# Altium footprint library screw.PcbLib: 6 footprints
Each footprint in its own frame and in the unit in brackets; x right, y up, seen from the top. Pads: shape width x height; smd on the part's side, far side on the other; paste and mask are expansions set on the pad; w line width, h text height; cw(c..) or ccw(c..) is an arc to the next point about the centre after c.
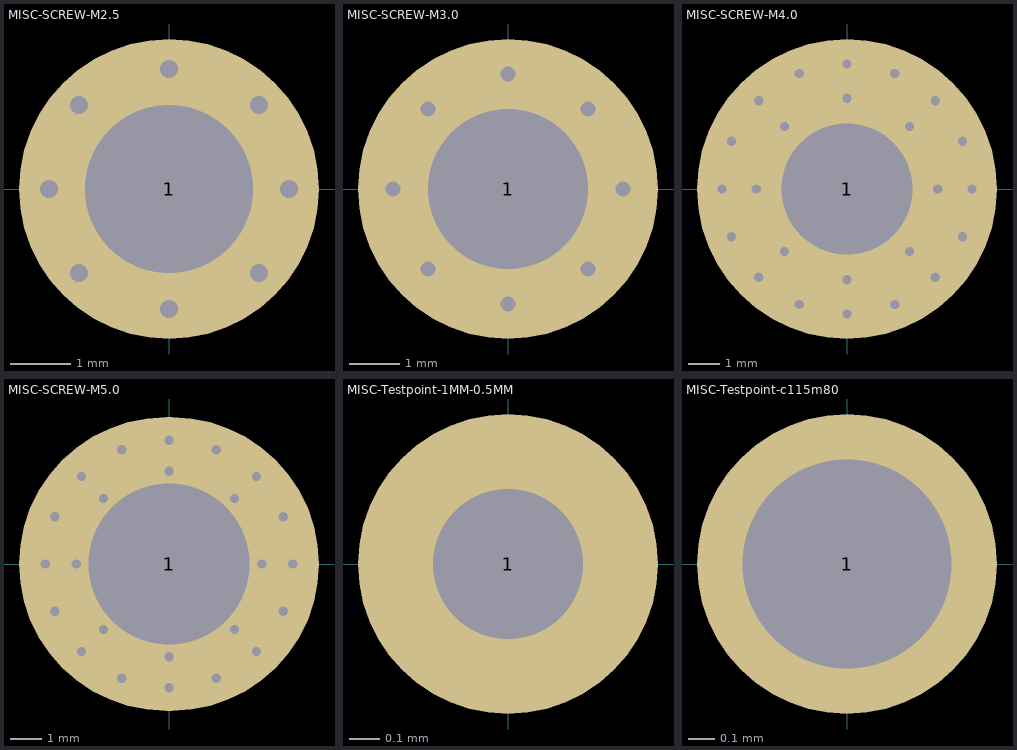
[diagram p0: the footprints below, top view; thin cyan lines are the x and y axes]

## MISC-SCREW-M2.5 [mm] "Mounting hol for M2.5 screw"
pads (1):
  round 5 hole 2.8 mask+0: 1(0,0)
via 1.5,1.4 diameter 0.7 hole 0.3
via -1.5,-1.4 diameter 0.7 hole 0.3
via 0,-2 diameter 0.7 hole 0.3
via -2,0 diameter 0.7 hole 0.3
via 0,2 diameter 0.7 hole 0.3
via -1.5,1.4 diameter 0.7 hole 0.3
via 1.5,-1.4 diameter 0.7 hole 0.3
via 2,0 diameter 0.7 hole 0.3
3D body "CON-2,5-SCREW.stp": height 2.5, standoff -4, extent -2.259,-2.183 2.241,2.292

## MISC-SCREW-M3.0 [mm] "Mounting hol for M3 screw"
pads (1):
  round 6 hole 3.2 paste+0 mask+0: 1(0,0)
via 2.3,0 diameter 0.7 hole 0.3
via 0,2.3 diameter 0.7 hole 0.3
via 0,-2.3 diameter 0.7 hole 0.3
via -2.3,0 diameter 0.7 hole 0.3
via 1.6,1.6 diameter 0.7 hole 0.3
via -1.6,1.6 diameter 0.7 hole 0.3
via 1.6,-1.6 diameter 0.7 hole 0.3
via -1.6,-1.6 diameter 0.7 hole 0.3
3D body "CON-M3,0-SCREW.stp": height 3, standoff -4, extent -2.738,-2.747 2.75,2.747

## MISC-SCREW-M4.0 [mm] "Mounting hol for M4 screw"
pads (1):
  round 9.6 hole 4.2 mask+0: 1(0,0)
via -2,-2 diameter 0.7 hole 0.3
via 2,-2 diameter 0.7 hole 0.3
via -2,2 diameter 0.7 hole 0.3
via 2,2 diameter 0.7 hole 0.3
via -2.9,0 diameter 0.7 hole 0.3
via 0,-2.9 diameter 0.7 hole 0.3
via 2.9,0 diameter 0.7 hole 0.3
via 0,2.9 diameter 0.7 hole 0.3
via 1.531,3.696 diameter 0.7 hole 0.3
via 3.696,1.531 diameter 0.7 hole 0.3
via 3.696,-1.531 diameter 0.7 hole 0.3
via -1.531,3.696 diameter 0.7 hole 0.3
via -3.696,1.531 diameter 0.7 hole 0.3
via -3.696,-1.531 diameter 0.7 hole 0.3
via -1.531,-3.696 diameter 0.7 hole 0.3
via 1.531,-3.696 diameter 0.7 hole 0.3
via -2.828,2.828 diameter 0.7 hole 0.3
via 0,4 diameter 0.7 hole 0.3
via 2.828,2.828 diameter 0.7 hole 0.3
via 4,0 diameter 0.7 hole 0.3
via 2.828,-2.828 diameter 0.7 hole 0.3
via 0,-4 diameter 0.7 hole 0.3
via -2.828,-2.828 diameter 0.7 hole 0.3
via -4,0 diameter 0.7 hole 0.3
3D body "M4 Schraube+Unterlegscheibe.stp": height 5, standoff -3, extent -4.5,-4.497 4.496,4.497

## MISC-SCREW-M5.0 [mm] "Mounting hol for M5 screw"
pads (1):
  oval 9.7x9.5 hole 5.2 mask+0: 1(0,0)
via -4,0 diameter 0.7 hole 0.3
via -2.828,-2.828 diameter 0.7 hole 0.3
via 0,-4 diameter 0.7 hole 0.3
via 2.828,-2.828 diameter 0.7 hole 0.3
via 4,0 diameter 0.7 hole 0.3
via 2.828,2.828 diameter 0.7 hole 0.3
via 0,4 diameter 0.7 hole 0.3
via -2.828,2.828 diameter 0.7 hole 0.3
via 1.531,-3.696 diameter 0.7 hole 0.3
via -1.531,-3.696 diameter 0.7 hole 0.3
via -3.696,-1.531 diameter 0.7 hole 0.3
via -3.696,1.531 diameter 0.7 hole 0.3
via -1.531,3.696 diameter 0.7 hole 0.3
via 3.696,-1.531 diameter 0.7 hole 0.3
via 3.696,1.531 diameter 0.7 hole 0.3
via 1.531,3.696 diameter 0.7 hole 0.3
via 0,3 diameter 0.7 hole 0.3
via 3,0 diameter 0.7 hole 0.3
via 0,-3 diameter 0.7 hole 0.3
via -3,0 diameter 0.7 hole 0.3
via 2.121,2.121 diameter 0.7 hole 0.3
via -2.121,2.121 diameter 0.7 hole 0.3
via 2.121,-2.121 diameter 0.7 hole 0.3
via -2.121,-2.121 diameter 0.7 hole 0.3
3D body "M4 Schraube+Unterlegscheibe.stp": height 5, standoff -3, extent -4.482,-4.497 4.514,4.497

## MISC-Testpoint-1MM-0.5MM [mm] "Testpoint only for testing."
pads (1):
  round 1 hole 0.5 mask+0: 1(0,0)

## MISC-Testpoint-c115m80 [mm] "Testpoint only for testing. Suitable for 2.00mm pin header"
pads (1):
  round 1.15 hole 0.8 mask+0: 1(0,0)